# EAGLE library part 686106183522 (library Eagle_FPC_CONNECTOR_AND_FFC_CAB (rev18c))
686106183522 WR-FPC 1.00mm SMT Horizontal Bottom Contact - Low Profile <http://katalog.we-online.de/media/images/v2/Family_WR-FPC_6861xx183522.jpg> Details see: http://katalog.we-online.de/en/em/FPC_1_00_SMT_ZIF_HORIZONTAL_BOTTOM_CONTACT_LOW_PROFILE_6861xx183522 Created by Yingchun,shan 2016 (C) Wurth Elektronik
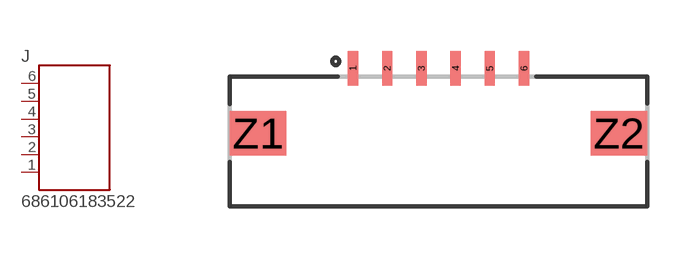
[diagram p156: symbol with the pads of 686106183522; footprint 686106183522]

Designator prefix J

## 686106183522  [686106183522]
1  6  pas
2  5  pas
3  4  pas
4  3  pas
5  2  pas
6  1  pas

## Footprint 686106183522 (pad centres in mm)
smd 0.3 x 1: 1 -2.5,1.9; 2 -1.5,1.9; 3 -0.5,1.9; 4 0.5,1.9; 5 1.5,1.9; 6 2.5,1.9
smd 1.65 x 1.3: Z1 -5.275,0; Z2 5.275,0